# EAGLE library part LM217LD13TR (library ST Microelectronics)
Low current 1.2 to 37V adjustable voltage regulator
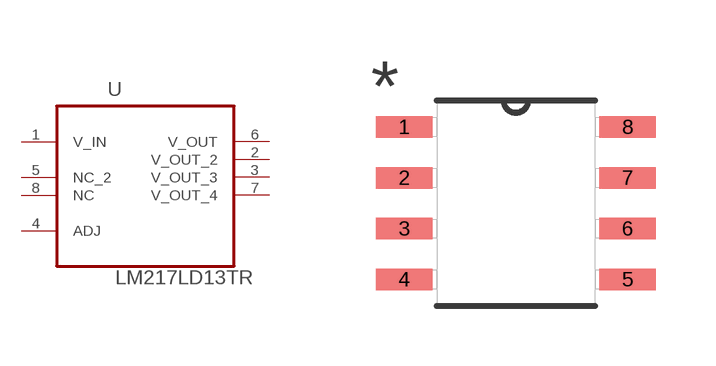
[diagram p87: symbol with the pads of SOIC127P600X175-8N; footprint SOIC127P600X175-8N]

Designator prefix U

## LM217LD13TR (MPN: LM217LD13TR; OC_FARNELL: 1087200; OC_NEWARK: 26M0318; PACKAGE: SOIC-8; SUPPLIER: STMICROELECTRONICS)  [SOIC127P600X175-8N]
1  V_IN  pwr
2  V_OUT_2  out
3  V_OUT_3  out
4  ADJ  in
5  NC_2  nc
6  V_OUT  out
7  V_OUT_4  out
8  NC  nc

## Footprint SOIC127P600X175-8N (pad centres in mm)
smd 1.422 x 0.533: 1 -2.794,1.905; 2 -2.794,0.635; 3 -2.794,-0.635; 4 -2.794,-1.905; 5 2.794,-1.905; 6 2.794,-0.635; 7 2.794,0.635; 8 2.794,1.905